# Altium footprint library Amin-Library_S2.PcbLib: 7 footprints
Each footprint in its own frame and in the unit in brackets; x right, y up, seen from the top. Pads: shape width x height; smd on the part's side, far side on the other; paste and mask are expansions set on the pad; w line width, h text height; cw(c..) or ccw(c..) is an arc to the next point about the centre after c.
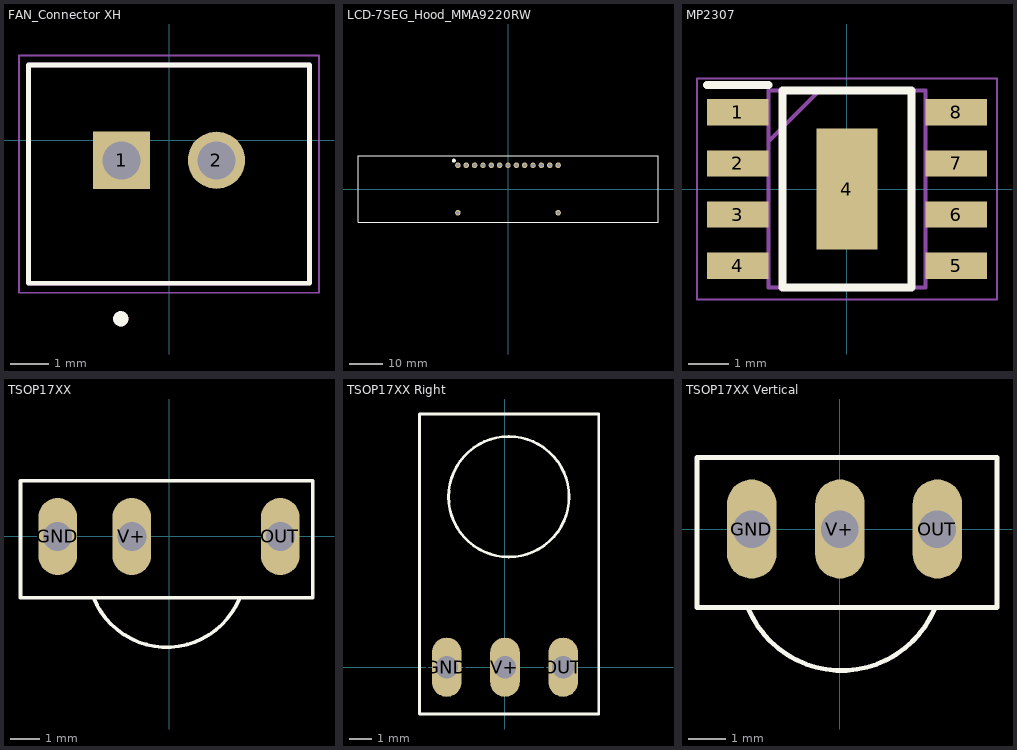
[diagram p0: the footprints below, top view; thin cyan lines are the x and y axes]

## FAN_Connector XH [mm] "FAN_Connector XH 2.54mm"
pads (2):
  rect 1.508x1.508 hole 1: 1(-1.25,-0.525)
  round 1.508 hole 1: 2(1.25,-0.525)
Top Overlay:
  circle w0.2: c-1.27,-4.699 r0.1
  lines w0.127: -3.7,-3.764 3.7,-3.764 3.7,1.986 -3.7,1.986 -3.7,-3.764
Mechanical 13:
  circle w0.2: c-1.27,-4.699 r0.1
  lines w0.127: -3.7,-3.764 3.7,-3.764 3.7,1.986 -3.7,1.986 -3.7,-3.764
Mechanical 15:
  lines w0.05: -3.95,-4.014 3.95,-4.014 3.95,2.236 -3.95,2.236 -3.95,-4.014
3D body "User Library-CONN, HDR, 2_5mm X 2.step": height 7.12, standoff -3.8, extent -3.708,-3.886 3.683,1.854

## LCD-7SEG_Hood_MMA9220RW [mm] "MMA9220RW"
pads (15):
  round 1.65 hole 1.1: 1(-15.033,7.12) 2(-12.533,7.12) 3(-10.033,7.12) 4(-7.5,7.12) 5(-5,7.12) 6(-2.5,7.12) 7(0,7.12) 8(2.5,7.12) 9(5,7.12) 10(7.5,7.12) 11(10.033,7.12) 12(12.533,7.12) 13(15.033,7.12) 14(-15.033,-7.12) 15(15.033,-7.12)
Top Overlay:
  circle w1: c-16.256,8.509 r0.1
  lines w0.2: -45,-10 -45,10 45,10 45,-10 -45,-10
3D body "end-el-san Co Ltd-King Bright CX25-12.step": height 5.51, standoff -3.49, extent -18,-5.5 18,5.5

## MP2307 [mm] "SOIC8"
pads (9):
  rect 1.525x0.65 smd: 1(-2.712,1.905) 2(-2.712,0.635) 3(-2.712,-0.635) 4(-2.712,-1.905) 5(2.712,-1.905) 6(2.712,-0.635) 7(2.712,0.635) 8(2.712,1.905)
  rect 1.525x3 smd paste-2: 4(0,0)
Top Overlay:
  lines w0.2: -3.475,2.58 -1.95,2.58 ; -1.6,-2.45 1.6,-2.45 1.6,2.45 -1.6,2.45 -1.6,-2.45
Top Paste:
  rectangle: -0.45,-0.3 0.45,0.3
  rectangle: -0.45,-1.25 0.45,-0.65
  rectangle: -0.45,0.6 0.45,1.2
Mechanical 13:
  lines w0.1: -1.95,1.18 -0.68,2.45 ; -1.95,-2.45 1.95,-2.45 1.95,2.45 -1.95,2.45 -1.95,-2.45
Mechanical 15:
  lines w0.05: -3.725,-2.75 3.725,-2.75 3.725,2.75 -3.725,2.75 -3.725,-2.75
3D body "FR9886SOGTR.stp": height 1.75, standoff 0, extent -3,-2.45 3,2.45

## PCBComponent_1 [mm]

## TSOP17XX [mil] "IR Receiver Dip"
pads (3):
  oval 52x104 hole 39.37: GND(-150,0) OUT(150,0) V+(-50,0)
Top Overlay:
  lines w5: -101.44,-82.82 ccw(c-3.15,-43.11) 95.14,-82.82 ; -200,-82.48 -200,75 -101.57,75 95.28,75 193.7,75 193.7,-82.48 95.28,-82.48 -101.57,-82.48 -200,-82.48
3D body "step_temp.STEP": height 1224.41, standoff 0, extent -196.85,-165.35 196.85,62.99

## TSOP17XX Right [mil] "IR Receiver Dip"
pads (3):
  oval 52x104 hole 39.37: GND(-102.36,0) OUT(102.36,0) V+(0,0)
Top Overlay:
  circle w5: c6.71,299.71 r106.01
  lines w5: -150,-82.28 -51.57,-82.28 145.28,-82.28 165,-82.28 165,445.2 -150,445.2 -150,-82.28
3D body "User Library-User Library-TSSP40_IR reciver.step": height 205.36, standoff -96.46, extent -116.22,-8.33 120,438.33

## TSOP17XX Vertical [mil] "IR Receiver Dip"
pads (3):
  oval 52x104 hole 39.37: GND(-92.52,0) OUT(102.36,0) V+(0,0)
Top Overlay:
  lines w5: -96.58,-82.28 ccw(c1.71,-42.57) 100,-82.28 ; -150,-82.28 -51.57,-82.28 145.28,-82.28 165,-82.28 165,75.2 145.28,75.2 -51.57,75.2 -150,75.2 -150,-82.28
3D body "User Library-IR Receiver.step": height 334.65, standoff -90.55, extent -117.05,-171.22 127.05,65